# EAGLE library part SAA3010 (library Philips-semiconductors2)
GENERAL DESCRIPTION The SAA3010 is intended as a general purpose (RC-5) infrared remote control system for use where a low voltage supply and a large debounce time are expected. The device can generate 2048 different commands and utilizes a keyboard with a single pole switch for each key. The commands are arranged so that 32 systems can be addressed, each system containing 64 different commands. The keyboard interconnection is illustrated by Fig.3. The circuit response to legal (one key pressed at a time) and illegal (more than one key pressed at a time) keyboard operation is specified in the section “Keyboard operation
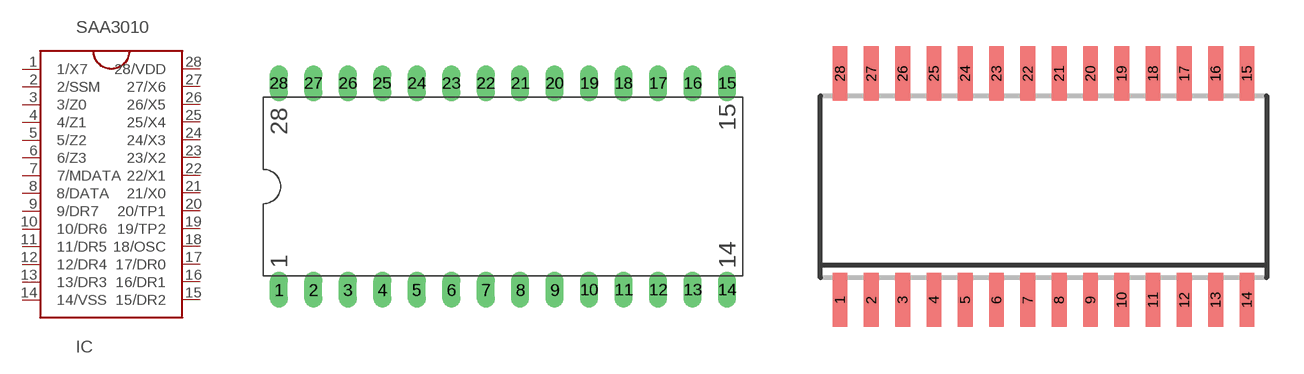
[diagram p65: symbol with the pads of DIP28; footprints DIP28, SO28]

Designator prefix IC

## SAA3010  [DIP28]
1  1/X7
2  2/SSM
3  3/Z0
4  4/Z1
5  5/Z2
6  6/Z3
7  7/MDATA
8  8/DATA
9  9/DR7
10  10/DR6
11  11/DR5
12  12/DR4
13  13/DR3
14  14/VSS  pwr
15  15/DR2
16  16/DR1
17  17/DR0
18  18/OSC
19  19/TP2
20  20/TP1
21  21/X0
22  22/X1
23  23/X2
24  24/X3
25  25/X4
26  26/X5
27  27/X6
28  28/VDD  pwr

## SAA3010SO28  [SO28]
Pads as for DIP28

## Footprint DIP28 (pad centres in mm)
drill 0.813 long: 1 -16.51,-7.62; 2 -13.97,-7.62; 3 -11.43,-7.62; 4 -8.89,-7.62; 5 -6.35,-7.62; 6 -3.81,-7.62; 7 -1.27,-7.62; 8 1.27,-7.62; 9 3.81,-7.62; 10 6.35,-7.62; 11 8.89,-7.62; 12 11.43,-7.62; 13 13.97,-7.62; 14 16.51,-7.62; 15 16.51,7.62; 16 13.97,7.62; 17 11.43,7.62; 18 8.89,7.62; 19 6.35,7.62; 20 3.81,7.62; 21 1.27,7.62; 22 -1.27,7.62; 23 -3.81,7.62; 24 -6.35,7.62; 25 -8.89,7.62; 26 -11.43,7.62; 27 -13.97,7.62; 28 -16.51,7.62

## Footprint SO28 (pad centres in mm)
Small Outline Package 7.6 x 18.3 mm
smd 0.6 x 2.2: 1 -8.255,-4.6; 2 -6.985,-4.6; 3 -5.715,-4.6; 4 -4.445,-4.6; 5 -3.175,-4.6; 6 -1.905,-4.6; 7 -0.635,-4.6; 8 0.635,-4.6; 9 1.905,-4.6; 10 3.175,-4.6; 11 4.445,-4.6; 12 5.715,-4.6; 13 6.985,-4.6; 14 8.255,-4.6; 15 8.255,4.6; 16 6.985,4.6; 17 5.715,4.6; 18 4.445,4.6; 19 3.175,4.6; 20 1.905,4.6; 21 0.635,4.6; 22 -0.635,4.6; 23 -1.905,4.6; 24 -3.175,4.6; 25 -4.445,4.6; 26 -5.715,4.6; 27 -6.985,4.6; 28 -8.255,4.6